# EAGLE library part MAX6921AWI (library diego)
MAX6921AWI VFD Tube Drivers 20-Output, 76V, Serial-Interfaced
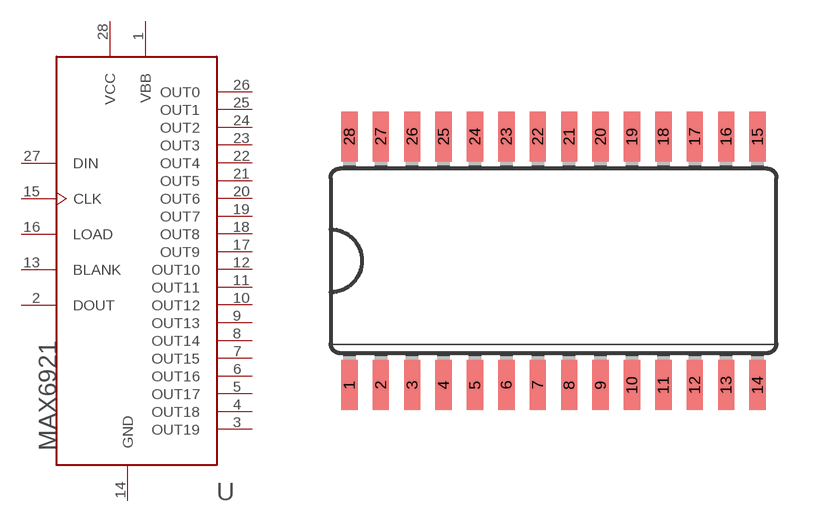
[diagram p1: symbol with the pads of SO28W; footprint SO28W]

Designator prefix U

## MAX6921AWI  [SO28W]
1  VBB  sup
2  DOUT  out
3  OUT19  out
4  OUT18  out
5  OUT17  out
6  OUT16  out
7  OUT15  out
8  OUT14  out
9  OUT13  out
10  OUT12  out
11  OUT11  out
12  OUT10  out
13  BLANK  in
14  GND  sup
15  CLK  in
16  LOAD  in
17  OUT9  out
18  OUT8  out
19  OUT7  out
20  OUT6  out
21  OUT5  out
22  OUT4  out
23  OUT3  out
24  OUT2  out
25  OUT1  out
26  OUT0  out
27  DIN  in
28  VCC  pwr

## Footprint SO28W (pad centres in mm)
smd 0.66 x 2.032: 1 -8.255,-5.029; 2 -6.985,-5.029; 3 -5.715,-5.029; 4 -4.445,-5.029; 5 -3.175,-5.029; 6 -1.905,-5.029; 7 -0.635,-5.029; 8 0.635,-5.029; 9 1.905,-5.029; 10 3.175,-5.029; 11 4.445,-5.029; 12 5.715,-5.029; 13 6.985,-5.029; 14 8.255,-5.029; 15 8.255,5.029; 16 6.985,5.029; 17 5.715,5.029; 18 4.445,5.029; 19 3.175,5.029; 20 1.905,5.029; 21 0.635,5.029; 22 -0.635,5.029; 23 -1.905,5.029; 24 -3.175,5.029; 25 -4.445,5.029; 26 -5.715,5.029; 27 -6.985,5.029; 28 -8.255,5.029